# Altium schematic symbol library FZT600TA.SchLib: 1 symbol
Pins are listed as number, name and electrical type; pins without a type are passive.

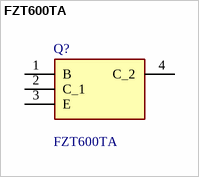
[diagram p0: symbol FZT600TA]

## FZT600TA
designator Q?
Darlington Transistors NPN Darlington 140V NPN DARLINGTON TRANSISTOR IN SOT223; Manufacturer_Name: Diodes Incorporated; Geometry.Height: 1.7mm; Mouser Part Number: 522-FZT600TA; Mouser Price/Stock: https://www.mouser.co.uk/ProductDetail/Diodes-Incorporated/FZT600TA?qs=fpoYs8%2FwAu8bOWo5PH7jWg%3D%3D; Manufacturer_Part_Number: FZT600TA; Datasheet Link: https://www.diodes.com//assets/Datasheets/FZT600A.pdf
footprint SOT230P700X170-4N
pins: 1 B, 2 C_1, 3 E, 4 C_2